# Altium schematic symbol library Sensor_BME_1.Schlib: 1 symbol
Pins are listed as number, name and electrical type; pins without a type are passive.

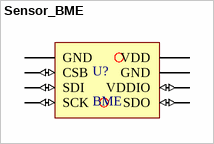
[diagram p0: symbol Sensor_BME]

## Sensor_BME
designator U?, comment BME
footprint SOP8_BME680
footprint SOP8_BME280
pins: 1 GND (power), 2 CSB (io), 3 SDI (io), 4 SCK (io), 5 SDO (io), 6 VDDIO (io), 7 GND (power), 8 VDD (power)